# Altium footprint library RESISTORS.PcbLib: 18 footprints (part 2 of 2)
Each footprint in its own frame and in the unit in brackets; x right, y up, seen from the top. Pads: shape width x height; smd on the part's side, far side on the other; paste and mask are expansions set on the pad; w line width, h text height; cw(c..) or ccw(c..) is an arc to the next point about the centre after c.
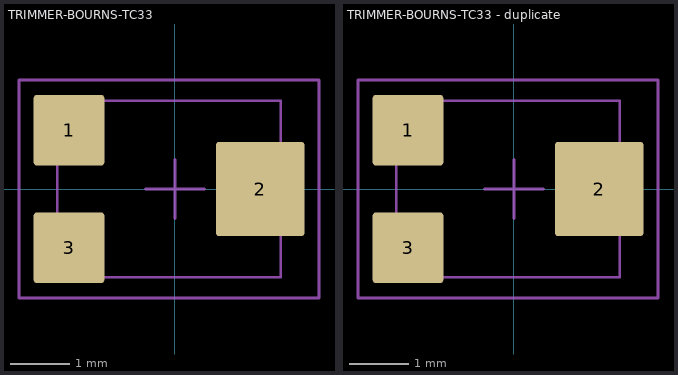
[diagram p1: the footprints below, top view; thin cyan lines are the x and y axes]

## TRIMMER-BOURNS-TC33 [mm]
pads (3):
  rrect8% 1.2x1.2 smd: 1(-1.8,1) 3(-1.8,-1)
  rrect6% 1.5x1.6 smd: 2(1.45,0)
Top Courtyard:
  lines w0.05: -0.5,0 0,0 ; 0,-0.5 0,0 ; 0,0.5 0,0 ; 0.5,0 0,0 ; -2.65,-1.85 -2.65,1.85 2.45,1.85 2.45,-1.85 -2.65,-1.85
Top Assembly:
  lines w0.05: -2,-1.5 1.8,-1.5 1.8,1.5 -2,1.5 -2,-1.5
3D body "step_temp.STEP": height 1.1, standoff -0.1, extent -1.9,-1.5 1.9,1.5

## TRIMMER-BOURNS-TC33 - duplicate [mm]
pads (3):
  rrect8% 1.2x1.2 smd: 1(-1.8,1) 3(-1.8,-1)
  rrect6% 1.5x1.6 smd: 2(1.45,0)
Top Courtyard:
  lines w0.05: -0.5,0 0,0 ; 0,-0.5 0,0 ; 0,0.5 0,0 ; 0.5,0 0,0 ; -2.65,-1.85 -2.65,1.85 2.45,1.85 2.45,-1.85 -2.65,-1.85
Top Assembly:
  lines w0.05: -2,-1.5 1.8,-1.5 1.8,1.5 -2,1.5 -2,-1.5
3D body "step_temp.STEP": height 1.1, standoff -0.1, extent -1.9,-1.5 1.9,1.5